# EAGLE library part IFX1763 (library quentin)
5V regulator
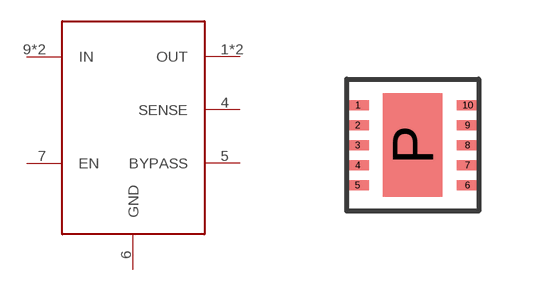
[diagram p22: symbol with the pads of PG-TSON-10; footprint PG-TSON-10]

Designator prefix -

## IFX1763LDV50  [PG-TSON-10]
1  OUT
2  OUT
4  SENSE
5  BYPASS
6  GND
7  EN
9  IN
10  IN

## Footprint PG-TSON-10 (pad centres in mm)
smd 0.55 x 0.25: 1 0,2; 2 0,1.5; 3 0,1; 4 0,0.5; 5 0,0; 6 2.75,0; 7 2.75,0.5; 8 2.75,1; 9 2.75,1.5; 10 2.75,2
smd 1.48 x 2.58: P 1.375,1